# EAGLE library part 686116183522 (library Eagle_FPC_CONNECTOR_AND_FFC_CAB (rev18c))
686116183522 WR-FPC 1.00mm SMT Horizontal Bottom Contact - Low Profile <http://katalog.we-online.de/media/images/v2/Family_WR-FPC_6861xx183522.jpg> Details see: http://katalog.we-online.de/en/em/FPC_1_00_SMT_ZIF_HORIZONTAL_BOTTOM_CONTACT_LOW_PROFILE_6861xx183522 Created by Yingchun,shan 2016 (C) Wurth Elektronik
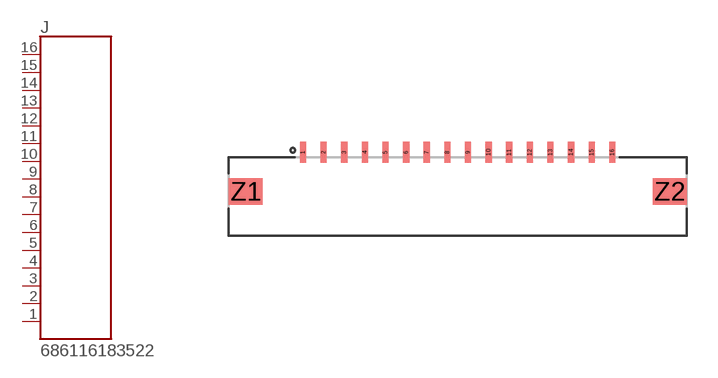
[diagram p162: symbol with the pads of 686116183522; footprint 686116183522]

Designator prefix J

## 686116183522  [686116183522]
1  16  pas
2  15  pas
3  14  pas
4  13  pas
5  12  pas
6  11  pas
7  10  pas
8  9  pas
9  8  pas
10  7  pas
11  6  pas
12  5  pas
13  4  pas
14  3  pas
15  2  pas
16  1  pas

## Footprint 686116183522 (pad centres in mm)
smd 0.3 x 1: 1 -7.5,1.9; 2 -6.5,1.9; 3 -5.5,1.9; 4 -4.5,1.9; 5 -3.5,1.9; 6 -2.5,1.9; 7 -1.5,1.9; 8 -0.5,1.9; 9 0.5,1.9; 10 1.5,1.9; 11 2.5,1.9; 12 3.5,1.9; 13 4.5,1.9; 14 5.5,1.9; 15 6.5,1.9; 16 7.5,1.9
smd 1.65 x 1.3: Z1 -10.275,0; Z2 10.275,0